# EAGLE library part LGA10 (library Bits_library_eagle 9x)
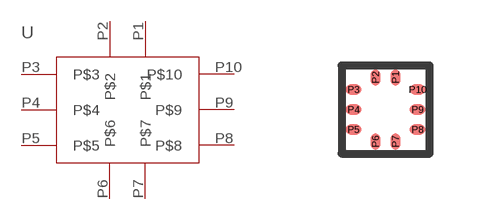
[diagram p35: symbol with the pads of LGA-10; footprint LGA-10]

Designator prefix -

## LGA10  [LGA-10]
P1  P$1
P2  P$2
P3  P$3
P4  P$4
P5  P$5
P6  P$6
P7  P$7
P8  P$8
P9  P$9
P10  P$10

## Footprint LGA-10 (pad centres in mm)
smd 0.25 x 0.4: P1 0.25,0.8; P2 -0.25,0.8; P6 -0.25,-0.8; P7 0.25,-0.8
smd 0.4 x 0.25: P3 -0.8,0.5; P4 -0.8,0; P5 -0.8,-0.5; P8 0.8,-0.5; P9 0.8,0; P10 0.8,0.5